# EAGLE library part ADG719BR (library Zoli2_2015-02-22)
Low voltage SPDT analog switch
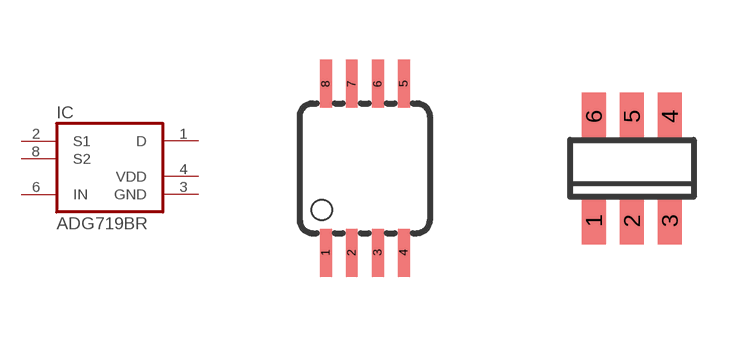
[diagram p8: symbol with the pads of MSOP08; footprints MSOP08, SOT23-6]

Designator prefix IC

## ADG719BRM  [MSOP08]
1  D  pas
2  S1  pas
3  GND  pwr
4  VDD  pwr
6  IN  in
8  S2  pas

## ADG719BRT  [SOT23-6]
1  IN  in
2  VDD  pwr
3  GND  pwr
4  S1  pas
5  D  pas
6  S2  pas

## Footprint MSOP08 (pad centres in mm)
Mini Small Outline Package
smd 0.3 x 1.2: 1 -0.976,-2.113; 2 -0.326,-2.113; 3 0.324,-2.113; 4 0.974,-2.113; 5 0.974,2.112; 6 0.324,2.112; 7 -0.326,2.112; 8 -0.976,2.112

## Footprint SOT23-6 (pad centres in mm)
smd 0.6 x 1.2: 1 -0.95,-1.306; 2 0,-1.306; 3 0.95,-1.306; 4 0.95,1.306; 5 0.003,1.306; 6 -0.95,1.306